# EAGLE library part HDMI_47151-1001 (library CONNECTORs)
HDMI Connector, Jack, 19 Contacts, Surface Mount, Metal Body, Gold Plated Contacts
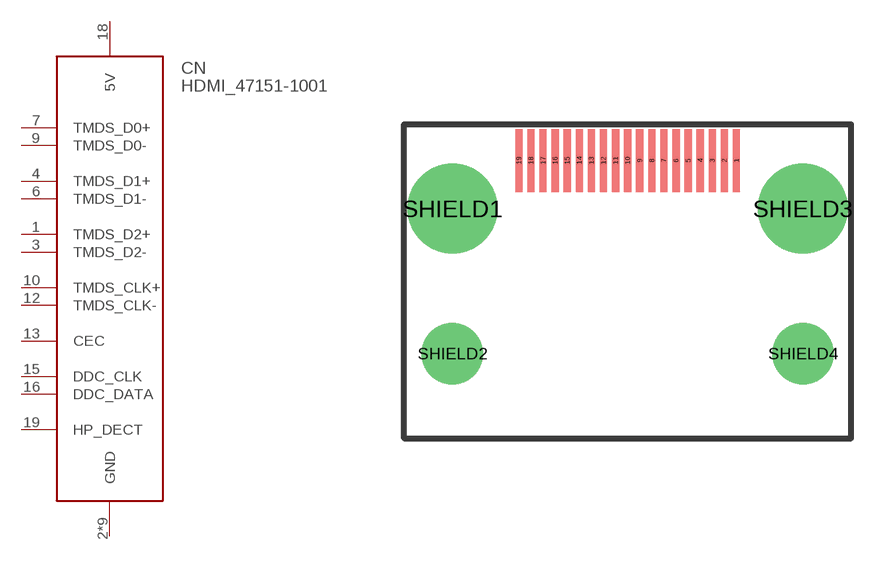
[diagram p26: symbol with the pads of HDMI-47151-1001; footprint HDMI-47151-1001]

Designator prefix CN

## HDMI_47151-1001 (FARNELL: 1516661; PRICE_PER: 0.969; VALUE: HDMI Jack)  [HDMI-47151-1001]
1  TMDS_D2+
2  GND
3  TMDS_D2-
4  TMDS_D1+
5  GND
6  TMDS_D1-
7  TMDS_D0+
8  GND
9  TMDS_D0-
10  TMDS_CLK+
11  GND
12  TMDS_CLK-
13  CEC
15  DDC_CLK
16  DDC_DATA
17  GND
18  5V
19  HP_DECT
SHIELD1  GND
SHIELD2  GND
SHIELD3  GND
SHIELD4  GND

## Footprint HDMI-47151-1001 (pad centres in mm)
smd 0.3 x 2.6: 1 4.5,6.5; 2 4,6.5; 3 3.5,6.5; 4 3,6.5; 5 2.5,6.5; 6 2,6.5; 7 1.5,6.5; 8 1,6.5; 9 0.5,6.5; 10 0,6.5; 11 -0.5,6.5; 12 -1,6.5; 13 -1.5,6.5; 14 -2,6.5; 15 -2.5,6.5; 16 -3,6.5; 17 -3.5,6.5; 18 -4,6.5; 19 -4.5,6.5
drill 2.7: SHIELD1 -7.25,4.5; SHIELD3 7.25,4.5
drill 1.7: SHIELD2 -7.25,-1.5; SHIELD4 7.25,-1.5